# Altium footprint library CONN_DIN.PcbLib: 18 footprints (part 1 of 2)
Each footprint in its own frame and in the unit in brackets; x right, y up, seen from the top. Pads: shape width x height; smd on the part's side, far side on the other; paste and mask are expansions set on the pad; w line width, h text height; cw(c..) or ccw(c..) is an arc to the next point about the centre after c.
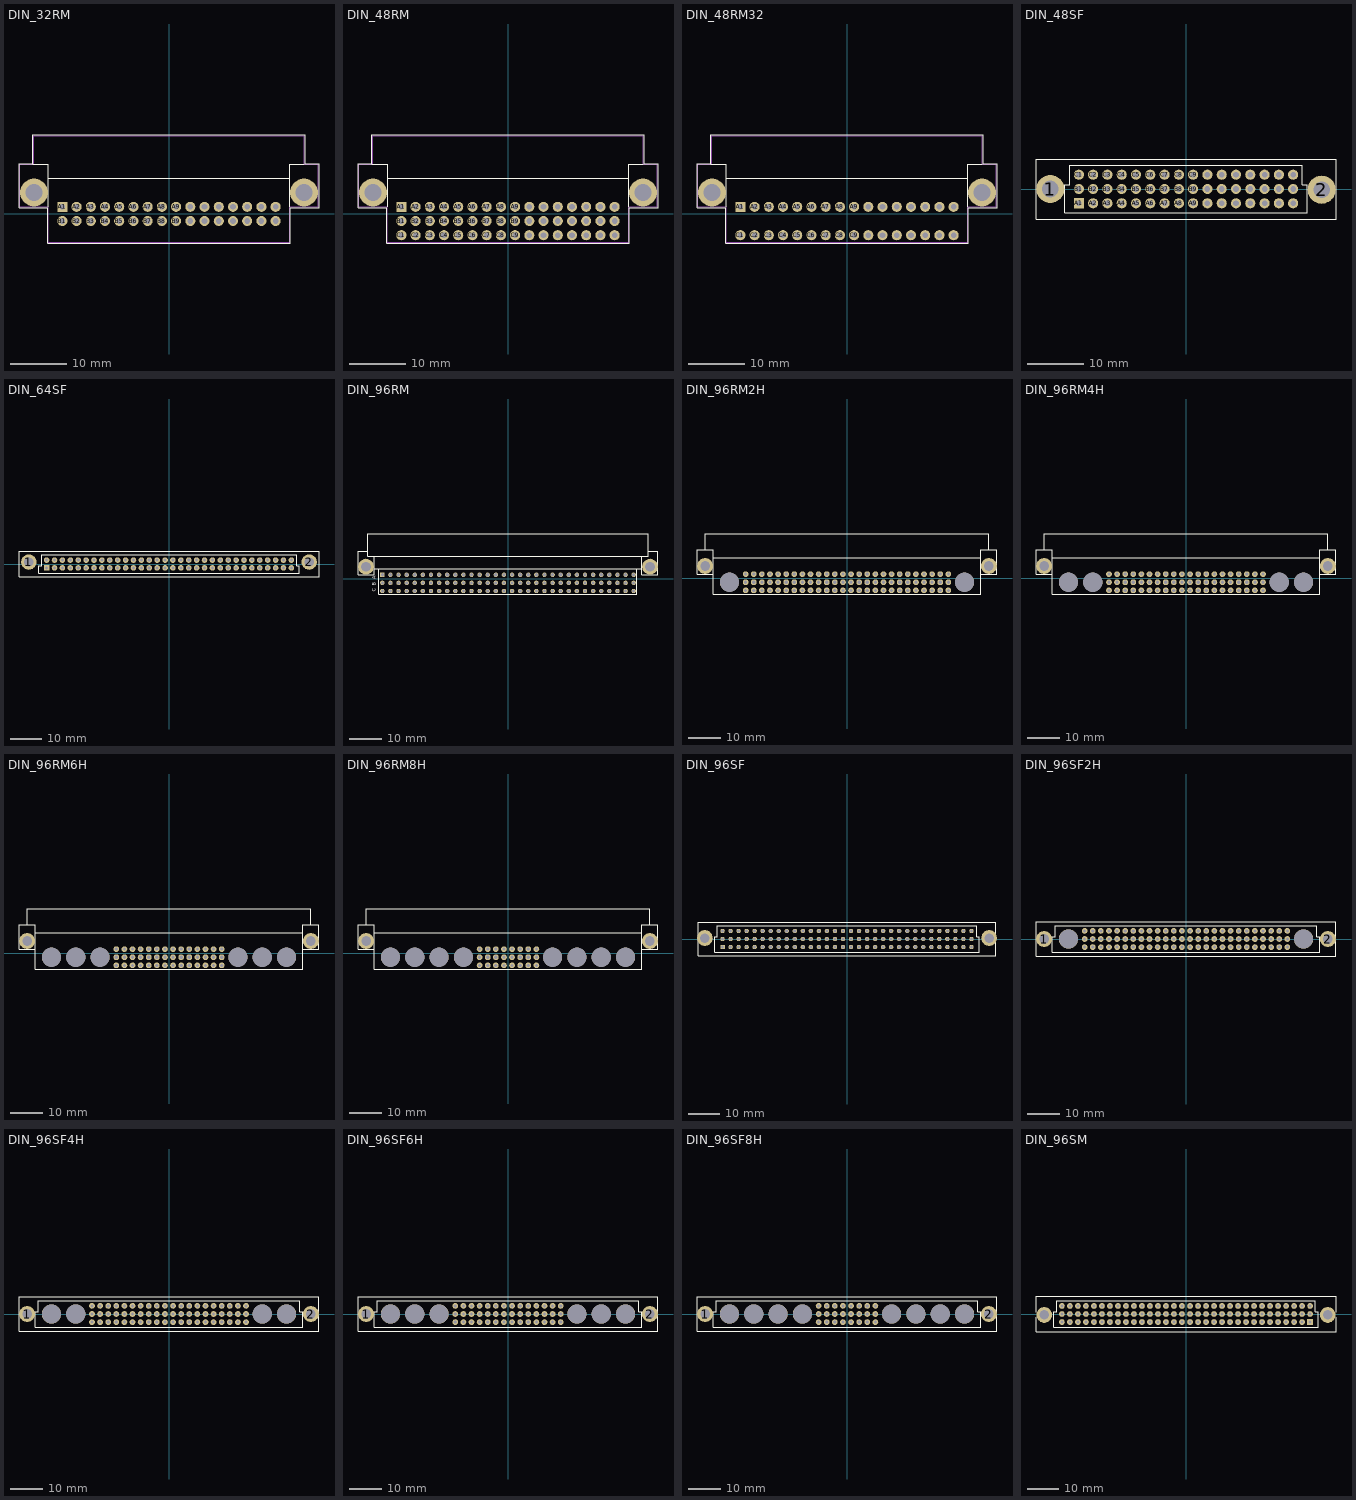
[diagram p0: the footprints below, top view; thin cyan lines are the x and y axes]

## DIN_32RM [mm] "DIN 41612, Series 8457 – 2 rows (2 x 16), Right Angled Male"
pads (34):
  rect 1.8x1.8 hole 1 mask+0.1: A1(-19.05,1.27)
  round 1.8 hole 1 mask+0.1: A2(-16.51,1.27) A3(-13.97,1.27) A4(-11.43,1.27) A5(-8.89,1.27) A6(-6.35,1.27) A7(-3.81,1.27) A8(-1.27,1.27) A9(1.27,1.27) A10(3.81,1.27) A11(6.35,1.27) A12(8.89,1.27) A13(11.43,1.27) A14(13.97,1.27) A15(16.51,1.27) A16(19.05,1.27) B1(-19.05,-1.27) B2(-16.51,-1.27) B3(-13.97,-1.27) B4(-11.43,-1.27) B5(-8.89,-1.27) B6(-6.35,-1.27) B7(-3.81,-1.27) B8(-1.27,-1.27) B9(1.27,-1.27) B10(3.81,-1.27) B11(6.35,-1.27) B12(8.89,-1.27) B13(11.43,-1.27) B14(13.97,-1.27) B15(16.51,-1.27) B16(19.05,-1.27)
  round 5 hole 3: ""(-24.13,3.81) ""(24.13,3.81)
Top Overlay:
  lines w0.2: -24.3,9 -26.8,9 -26.8,1.1 -21.7,1.1 -21.7,-5.2 21.7,-5.2 21.7,1.1 26.8,1.1 26.8,9 24.3,9 24.3,14.1 -24.3,14.1 -24.3,8.9 -21.6,8.9 -21.6,1.27 ; -21.6,6.35 21.6,6.35 ; 21.6,1.27 21.6,8.9 24.13,8.9
Mechanical 13:
  lines w0.1: -26.67,1.27 -26.67,8.89 -24.13,8.89 -24.13,13.97 24.13,13.97 24.13,8.89 26.67,8.89 26.67,1.27 21.59,1.27 21.59,-5.08 -21.59,-5.08 -21.59,1.27 -26.67,1.27
3D body: height 8.5, standoff 0, extent -26.67,-5.08 26.67,13.97

## DIN_48RM [mm]
pads (50):
  rect 1.8x1.8 hole 1 mask+0.1: A1(-19.05,1.27)
  round 1.8 hole 1 mask+0.1: A2(-16.51,1.27) A3(-13.97,1.27) A4(-11.43,1.27) A5(-8.89,1.27) A6(-6.35,1.27) A7(-3.81,1.27) A8(-1.27,1.27) A9(1.27,1.27) A10(3.81,1.27) A11(6.35,1.27) A12(8.89,1.27) A13(11.43,1.27) A14(13.97,1.27) A15(16.51,1.27) A16(19.05,1.27) B1(-19.05,-1.27) B2(-16.51,-1.27) B3(-13.97,-1.27) B4(-11.43,-1.27) B5(-8.89,-1.27) B6(-6.35,-1.27) B7(-3.81,-1.27) B8(-1.27,-1.27) B9(1.27,-1.27) B10(3.81,-1.27) B11(6.35,-1.27) B12(8.89,-1.27) B13(11.43,-1.27) B14(13.97,-1.27) B15(16.51,-1.27) B16(19.05,-1.27) C1(-19.05,-3.81) C2(-16.51,-3.81) C3(-13.97,-3.81) C4(-11.43,-3.81) C5(-8.89,-3.81) C6(-6.35,-3.81) C7(-3.81,-3.81) C8(-1.27,-3.81) C9(1.27,-3.81) C10(3.81,-3.81) C11(6.35,-3.81) C12(8.89,-3.81) C13(11.43,-3.81) C14(13.97,-3.81) C15(16.51,-3.81) C16(19.05,-3.81)
  round 5 hole 3: ""(-24.13,3.81) ""(24.13,3.81)
Top Overlay:
  lines w0.2: -24.3,9 -26.8,9 -26.8,1.1 -21.7,1.1 -21.7,-5.2 21.7,-5.2 21.7,1.1 26.8,1.1 26.8,9 24.3,9 24.3,14.1 -24.3,14.1 -24.3,8.9 -21.5,8.9 -21.5,1.27 ; -21.5,6.35 21.6,6.35 ; 21.6,1.27 21.6,8.9 24.13,8.9
Mechanical 13:
  lines w0.1: -26.67,1.27 -26.67,8.89 -24.13,8.89 -24.13,13.97 24.13,13.97 24.13,8.89 26.67,8.89 26.67,1.27 21.59,1.27 21.59,-5.08 -21.59,-5.08 -21.59,1.27 -26.67,1.27
3D body: height 8.5, standoff 0, extent -26.67,-5.08 26.67,13.97

## DIN_48RM32 [mm] "DIN 41612, Series 8457 – 2 rows (2 x 16), Right Angled Male"
pads (34):
  rect 1.8x1.8 hole 1 mask+0.1: A1(-19.05,1.27)
  round 1.8 hole 1 mask+0.1: A2(-16.51,1.27) A3(-13.97,1.27) A4(-11.43,1.27) A5(-8.89,1.27) A6(-6.35,1.27) A7(-3.81,1.27) A8(-1.27,1.27) A9(1.27,1.27) A10(3.81,1.27) A11(6.35,1.27) A12(8.89,1.27) A13(11.43,1.27) A14(13.97,1.27) A15(16.51,1.27) A16(19.05,1.27) C1(-19.05,-3.81) C2(-16.51,-3.81) C3(-13.97,-3.81) C4(-11.43,-3.81) C5(-8.89,-3.81) C6(-6.35,-3.81) C7(-3.81,-3.81) C8(-1.27,-3.81) C9(1.27,-3.81) C10(3.81,-3.81) C11(6.35,-3.81) C12(8.89,-3.81) C13(11.43,-3.81) C14(13.97,-3.81) C15(16.51,-3.81) C16(19.05,-3.81)
  round 5 hole 3: ""(-24.13,3.81) ""(24.13,3.81)
Top Overlay:
  lines w0.2: -24.3,9 -26.8,9 -26.8,1.1 -21.7,1.1 -21.7,-5.2 21.7,-5.2 21.7,1.1 26.8,1.1 26.8,9 24.3,9 24.3,14.1 -24.3,14.1 -24.3,8.9 -21.6,8.9 -21.6,1.27 ; -21.6,6.35 21.6,6.35 ; 21.6,1.27 21.6,8.9 24.13,8.9
Mechanical 13:
  lines w0.1: -26.67,1.27 -26.67,8.89 -24.13,8.89 -24.13,13.97 24.13,13.97 24.13,8.89 26.67,8.89 26.67,1.27 21.59,1.27 21.59,-5.08 -21.59,-5.08 -21.59,1.27 -26.67,1.27
3D body: height 8.5, standoff 0, extent -26.67,-5.08 26.67,13.97

## DIN_48SF [mm]
pads (50):
  round 5 hole 3: 1(-24.13,0) 2(24.13,-0.127)
  rect 1.8x1.8 hole 1 mask+0.1: A1(-19.05,-2.54)
  round 1.8 hole 1 mask+0.1: A2(-16.51,-2.54) A3(-13.97,-2.54) A4(-11.43,-2.54) A5(-8.89,-2.54) A6(-6.35,-2.54) A7(-3.81,-2.54) A8(-1.27,-2.54) A9(1.27,-2.54) A10(3.81,-2.54) A11(6.35,-2.54) A12(8.89,-2.54) A13(11.43,-2.54) A14(13.97,-2.54) A15(16.51,-2.54) A16(19.05,-2.54) B1(-19.05,0) B2(-16.51,0) B3(-13.97,0) B4(-11.43,0) B5(-8.89,0) B6(-6.35,0) B7(-3.81,0) B8(-1.27,0) B9(1.27,0) B10(3.81,0) B11(6.35,0) B12(8.89,0) B13(11.43,0) B14(13.97,0) B15(16.51,0) B16(19.05,0) C1(-19.05,2.54) C2(-16.51,2.54) C3(-13.97,2.54) C4(-11.43,2.54) C5(-8.89,2.54) C6(-6.35,2.54) C7(-3.81,2.54) C8(-1.27,2.54) C9(1.27,2.54) C10(3.81,2.54) C11(6.35,2.54) C12(8.89,2.54) C13(11.43,2.54) C14(13.97,2.54) C15(16.51,2.54) C16(19.05,2.54)
Top Overlay:
  lines w0.2: -26.67,-5.334 26.67,-5.334 26.67,5.334 -26.67,5.334 -26.67,-5.334 ; -21.59,-4.191 21.59,-4.191 21.59,0.762 20.701,0.762 20.701,4.191 -20.701,4.191 -20.701,0.762 -21.59,0.762 -21.59,-4.191

## DIN_64SF [mm]
pads (66):
  round 5 hole 3: 1(-45.085,0.635) 2(45.085,0.635)
  rect 1.8x1.8 hole 1 mask+0.1: A1(-39.37,-1.27)
  round 1.8 hole 1 mask+0.1: A2(-36.83,-1.27) A3(-34.29,-1.27) A4(-31.75,-1.27) A5(-29.21,-1.27) A6(-26.67,-1.27) A7(-24.13,-1.27) A8(-21.59,-1.27) A9(-19.05,-1.27) A10(-16.51,-1.27) A11(-13.97,-1.27) A12(-11.43,-1.27) A13(-8.89,-1.27) A14(-6.35,-1.27) A15(-3.81,-1.27) A16(-1.27,-1.27) A17(1.27,-1.27) A18(3.81,-1.27) A19(6.35,-1.27) A20(8.89,-1.27) A21(11.43,-1.27) A22(13.97,-1.27) A23(16.51,-1.27) A24(19.05,-1.27) A25(21.59,-1.27) A26(24.13,-1.27) A27(26.67,-1.27) A28(29.21,-1.27) A29(31.75,-1.27) A30(34.29,-1.27) A31(36.83,-1.27) A32(39.37,-1.27) B1(-39.37,1.27) B2(-36.83,1.27) B3(-34.29,1.27) B4(-31.75,1.27) B5(-29.21,1.27) B6(-26.67,1.27) B7(-24.13,1.27) B8(-21.59,1.27) B9(-19.05,1.27) B10(-16.51,1.27) B11(-13.97,1.27) B12(-11.43,1.27) B13(-8.89,1.27) B14(-6.35,1.27) B15(-3.81,1.27) B16(-1.27,1.27) B17(1.27,1.27) B18(3.81,1.27) B19(6.35,1.27) B20(8.89,1.27) B21(11.43,1.27) B22(13.97,1.27) B23(16.51,1.27) B24(19.05,1.27) B25(21.59,1.27) B26(24.13,1.27) B27(26.67,1.27) B28(29.21,1.27) B29(31.75,1.27) B30(34.29,1.27) B31(36.83,1.27) B32(39.37,1.27)
Top Overlay:
  lines w0.2: -48.26,-4.064 48.26,-4.064 48.26,4.064 -48.26,4.064 -48.26,-4.064 ; -41.91,-2.921 41.91,-2.921 41.91,-0.508 41.021,-0.508 41.021,2.921 -41.021,2.921 -41.021,-0.508 -41.91,-0.508 -41.91,-2.921

## DIN_96RM [mm] "DIN 41612, 2.54mm,pin,DIN 41612,solder,PCB,90,96w, TE 5650947-5"
pads (98):
  rect 1.4x1.4 / inner rect 1.3x1.3 / far side rect 1.4x1.8 hole 1 mask+0.1: A1(-39.37,1.27)
  round 1.4 / inner round 1.3 / far side oval 1.4x1.8 hole 1 mask+0.1: A2(-36.83,1.27) A3(-34.29,1.27) A4(-31.75,1.27) A5(-29.21,1.27) A6(-26.67,1.27) A7(-24.13,1.27) A8(-21.59,1.27) A9(-19.05,1.27) A10(-16.51,1.27) A11(-13.97,1.27) A12(-11.43,1.27) A13(-8.89,1.27) A14(-6.35,1.27) A15(-3.81,1.27) A16(-1.27,1.27) A17(1.27,1.27) A18(3.81,1.27) A19(6.35,1.27) A20(8.89,1.27) A21(11.43,1.27) A22(13.97,1.27) A23(16.51,1.27) A24(19.05,1.27) A25(21.59,1.27) A26(24.13,1.27) A27(26.67,1.27) A28(29.21,1.27) A29(31.75,1.27) A30(34.29,1.27) A31(36.83,1.27) A32(39.37,1.27) B1(-39.37,-1.27) B2(-36.83,-1.27) B3(-34.29,-1.27) B4(-31.75,-1.27) B5(-29.21,-1.27) B6(-26.67,-1.27) B7(-24.13,-1.27) B8(-21.59,-1.27) B9(-19.05,-1.27) B10(-16.51,-1.27) B11(-13.97,-1.27) B12(-11.43,-1.27) B13(-8.89,-1.27) B14(-6.35,-1.27) B15(-3.81,-1.27) B16(-1.27,-1.27) B17(1.27,-1.27) B18(3.81,-1.27) B19(6.35,-1.27) B20(8.89,-1.27) B21(11.43,-1.27) B22(13.97,-1.27) B23(16.51,-1.27) B24(19.05,-1.27) B25(21.59,-1.27) B26(24.13,-1.27) B27(26.67,-1.27) B28(29.21,-1.27) B29(31.75,-1.27) B30(34.29,-1.27) B31(36.83,-1.27) B32(39.37,-1.27) C1(-39.37,-3.81) C2(-36.83,-3.81) C3(-34.29,-3.81) C4(-31.75,-3.81) C5(-29.21,-3.81) C6(-26.67,-3.81) C7(-24.13,-3.81) C8(-21.59,-3.81) C9(-19.05,-3.81) C10(-16.51,-3.81) C11(-13.97,-3.81) C12(-11.43,-3.81) C13(-8.89,-3.81) C14(-6.35,-3.81) C15(-3.81,-3.81) C16(-1.27,-3.81) C17(1.27,-3.81) C18(3.81,-3.81) C19(6.35,-3.81) C20(8.89,-3.81) C21(11.43,-3.81) C22(13.97,-3.81) C23(16.51,-3.81) C24(19.05,-3.81) C25(21.59,-3.81) C26(24.13,-3.81) C27(26.67,-3.81) C28(29.21,-3.81) C29(31.75,-3.81) C30(34.29,-3.81) C31(36.83,-3.81) C32(39.37,-3.81)
  round 5 hole 3: ""(-44.5,3.8) ""(44.5,3.8)
Top Overlay:
  lines w0.2: -44,8.6 -46.99,8.6 -46.99,1.27 -41.91,1.27 -41.91,7.1 ; -41.91,3.2 41.91,3.2 ; -40.5,3.2 -40.5,-4.8 40.4,-4.8 40.4,3.2 ; 41.91,7.09 41.91,1.27 46.99,1.27 46.99,8.6 44,8.6 ; -44,7.1 -44,14.1 44,14.1 44,7.1 -44,7.1
  text "C" at -41,-4 h2
  text "B" at -40.9,-2.1 h2
  text "A" at -41,-0.2 h2
3D body "12003.stp": height 11.02, standoff -1.74, extent -46.925,-4.1 46.925,13.922

## DIN_96RM2H [mm]
pads (82):
  round 1.8 hole 1 mask+0.1: A4(-31.75,1.27) A5(-29.21,1.27) A6(-26.67,1.27) A7(-24.13,1.27) A8(-21.59,1.27) A9(-19.05,1.27) A10(-16.51,1.27) A11(-13.97,1.27) A12(-11.43,1.27) A13(-8.89,1.27) A14(-6.35,1.27) A15(-3.81,1.27) A16(-1.27,1.27) A17(1.27,1.27) A18(3.81,1.27) A19(6.35,1.27) A20(8.89,1.27) A21(11.43,1.27) A22(13.97,1.27) A23(16.51,1.27) A24(19.05,1.27) A25(21.59,1.27) A26(24.13,1.27) A27(26.67,1.27) A28(29.21,1.27) A29(31.75,1.27) B4(-31.75,-1.27) B5(-29.21,-1.27) B6(-26.67,-1.27) B7(-24.13,-1.27) B8(-21.59,-1.27) B9(-19.05,-1.27) B10(-16.51,-1.27) B11(-13.97,-1.27) B12(-11.43,-1.27) B13(-8.89,-1.27) B14(-6.35,-1.27) B15(-3.81,-1.27) B16(-1.27,-1.27) B17(1.27,-1.27) B18(3.81,-1.27) B19(6.35,-1.27) B20(8.89,-1.27) B21(11.43,-1.27) B22(13.97,-1.27) B23(16.51,-1.27) B24(19.05,-1.27) B25(21.59,-1.27) B26(24.13,-1.27) B27(26.67,-1.27) B28(29.21,-1.27) B29(31.75,-1.27) C4(-31.75,-3.81) C5(-29.21,-3.81) C6(-26.67,-3.81) C7(-24.13,-3.81) C8(-21.59,-3.81) C9(-19.05,-3.81) C10(-16.51,-3.81) C11(-13.97,-3.81) C12(-11.43,-3.81) C13(-8.89,-3.81) C14(-6.35,-3.81) C15(-3.81,-3.81) C16(-1.27,-3.81) C17(1.27,-3.81) C18(3.81,-3.81) C19(6.35,-3.81) C20(8.89,-3.81) C21(11.43,-3.81) C22(13.97,-3.81) C23(16.51,-3.81) C24(19.05,-3.81) C25(21.59,-3.81) C26(24.13,-3.81) C27(26.67,-3.81) C28(29.21,-3.81) C29(31.75,-3.81)
  round 5 hole 3: ""(-44.45,3.81) ""(44.45,3.81)
  round 6 hole 6 unplated: ""(-36.83,-1.27)
  round 6 hole 6: ""(36.83,-1.27)
Top Overlay:
  lines w0.2: -41.91,6.35 41.91,6.35 ; -44.45,8.89 -44.45,13.97 44.45,13.97 44.45,8.89 ; -44.45,8.89 -46.99,8.89 -46.99,1.27 -41.91,1.27 ; -44.45,8.89 -41.91,8.89 -41.91,1.27 ; -41.91,1.27 -41.91,-5.08 41.91,-5.08 41.91,1.27 ; 41.91,1.27 41.91,8.89 44.45,8.89 ; 41.91,1.27 46.99,1.27 46.99,8.89 44.45,8.89

## DIN_96RM4H [mm]
pads (66):
  round 1.8 hole 1 mask+0.1: A7(-24.13,1.27) A8(-21.59,1.27) A9(-19.05,1.27) A10(-16.51,1.27) A11(-13.97,1.27) A12(-11.43,1.27) A13(-8.89,1.27) A14(-6.35,1.27) A15(-3.81,1.27) A16(-1.27,1.27) A17(1.27,1.27) A18(3.81,1.27) A19(6.35,1.27) A20(8.89,1.27) A21(11.43,1.27) A22(13.97,1.27) A23(16.51,1.27) A24(19.05,1.27) A25(21.59,1.27) A26(24.13,1.27) B7(-24.13,-1.27) B8(-21.59,-1.27) B9(-19.05,-1.27) B10(-16.51,-1.27) B11(-13.97,-1.27) B12(-11.43,-1.27) B13(-8.89,-1.27) B14(-6.35,-1.27) B15(-3.81,-1.27) B16(-1.27,-1.27) B17(1.27,-1.27) B18(3.81,-1.27) B19(6.35,-1.27) B20(8.89,-1.27) B21(11.43,-1.27) B22(13.97,-1.27) B23(16.51,-1.27) B24(19.05,-1.27) B25(21.59,-1.27) B26(24.13,-1.27) C7(-24.13,-3.81) C8(-21.59,-3.81) C9(-19.05,-3.81) C10(-16.51,-3.81) C11(-13.97,-3.81) C12(-11.43,-3.81) C13(-8.89,-3.81) C14(-6.35,-3.81) C15(-3.81,-3.81) C16(-1.27,-3.81) C17(1.27,-3.81) C18(3.81,-3.81) C19(6.35,-3.81) C20(8.89,-3.81) C21(11.43,-3.81) C22(13.97,-3.81) C23(16.51,-3.81) C24(19.05,-3.81) C25(21.59,-3.81) C26(24.13,-3.81)
  round 5 hole 3: ""(-44.45,3.81) ""(44.45,3.81)
  round 6 hole 6 unplated: ""(-36.83,-1.27) ""(-29.21,-1.27) ""(36.83,-1.27)
  round 6 hole 6: ""(29.21,-1.27)
Top Overlay:
  lines w0.2: -41.91,6.35 41.91,6.35 ; -44.45,8.89 -44.45,13.97 44.45,13.97 44.45,8.89 ; -44.45,8.89 -46.99,8.89 -46.99,1.27 -41.91,1.27 ; -44.45,8.89 -41.91,8.89 -41.91,1.27 ; -41.91,1.27 -41.91,-5.08 41.91,-5.08 41.91,1.27 ; 41.91,1.27 41.91,8.89 44.45,8.89 ; 41.91,1.27 46.99,1.27 46.99,8.89 44.45,8.89

## DIN_96RM6H [mm]
pads (50):
  round 1.8 hole 1 mask+0.1: A10(-16.51,1.27) A11(-13.97,1.27) A12(-11.43,1.27) A13(-8.89,1.27) A14(-6.35,1.27) A15(-3.81,1.27) A16(-1.27,1.27) A17(1.27,1.27) A18(3.81,1.27) A19(6.35,1.27) A20(8.89,1.27) A21(11.43,1.27) A22(13.97,1.27) A23(16.51,1.27) B10(-16.51,-1.27) B11(-13.97,-1.27) B12(-11.43,-1.27) B13(-8.89,-1.27) B14(-6.35,-1.27) B15(-3.81,-1.27) B16(-1.27,-1.27) B17(1.27,-1.27) B18(3.81,-1.27) B19(6.35,-1.27) B20(8.89,-1.27) B21(11.43,-1.27) B22(13.97,-1.27) B23(16.51,-1.27) C10(-16.51,-3.81) C11(-13.97,-3.81) C12(-11.43,-3.81) C13(-8.89,-3.81) C14(-6.35,-3.81) C15(-3.81,-3.81) C16(-1.27,-3.81) C17(1.27,-3.81) C18(3.81,-3.81) C19(6.35,-3.81) C20(8.89,-3.81) C21(11.43,-3.81) C22(13.97,-3.81) C23(16.51,-3.81)
  round 5 hole 3: ""(-44.45,3.81) ""(44.45,3.81)
  round 6 hole 6 unplated: ""(-36.83,-1.27) ""(-29.21,-1.27) ""(-21.59,-1.27) ""(29.21,-1.27) ""(36.83,-1.27)
  round 6 hole 6: ""(21.59,-1.27)
Top Overlay:
  lines w0.2: -41.91,6.35 41.91,6.35 ; -44.45,8.89 -41.91,8.89 -41.91,1.27 ; -44.45,8.89 -46.99,8.89 -46.99,1.27 -41.91,1.27 ; -44.45,8.89 -44.45,13.97 44.45,13.97 44.45,8.89 ; -41.91,1.27 -41.91,-5.08 41.91,-5.08 41.91,1.27 ; 41.91,1.27 46.99,1.27 46.99,8.89 44.45,8.89 ; 41.91,1.27 41.91,8.89 44.45,8.89

## DIN_96RM8H [mm]
pads (34):
  round 1.8 hole 1 mask+0.1: A13(-8.89,1.27) A14(-6.35,1.27) A15(-3.81,1.27) A16(-1.27,1.27) A17(1.27,1.27) A18(3.81,1.27) A19(6.35,1.27) A20(8.89,1.27) B13(-8.89,-1.27) B14(-6.35,-1.27) B15(-3.81,-1.27) B16(-1.27,-1.27) B17(1.27,-1.27) B18(3.81,-1.27) B19(6.35,-1.27) B20(8.89,-1.27) C13(-8.89,-3.81) C14(-6.35,-3.81) C15(-3.81,-3.81) C16(-1.27,-3.81) C17(1.27,-3.81) C18(3.81,-3.81) C19(6.35,-3.81) C20(8.89,-3.81)
  round 5 hole 3: ""(-44.45,3.81) ""(44.45,3.81)
  round 6 hole 6 unplated: ""(-36.83,-1.27) ""(-29.21,-1.27) ""(-21.59,-1.27) ""(21.59,-1.27) ""(29.21,-1.27) ""(36.83,-1.27)
  round 6 hole 6 unplated mask+0.1: ""(-13.97,-1.27) ""(13.97,-1.27)
Top Overlay:
  lines w0.2: -41.91,6.35 41.91,6.35 ; -44.45,8.89 -44.45,13.97 44.45,13.97 44.45,8.89 ; -44.45,8.89 -46.99,8.89 -46.99,1.27 -41.91,1.27 ; -44.45,8.89 -41.91,8.89 -41.91,1.27 ; -41.91,1.27 -41.91,-5.08 41.91,-5.08 41.91,1.27 ; 41.91,1.27 41.91,8.89 44.45,8.89 ; 41.91,1.27 46.99,1.27 46.99,8.89 44.45,8.89

## DIN_96SF [mm] "DIN 41612, 2.54mm,receptacle,vertical,PCB,96w, TE 5535032-5"
pads (98):
  rect 1.4x1.4 / inner rect 1.3x1.3 / far side rect 1.4x1.8 hole 1 mask+0.1: A1(-39.37,-2.54)
  round 1.4 / inner round 1.3 / far side oval 1.4x1.8 hole 1 mask+0.1: A2(-36.83,-2.54) A3(-34.29,-2.54) A4(-31.75,-2.54) A5(-29.21,-2.54) A6(-26.67,-2.54) A7(-24.13,-2.54) A8(-21.59,-2.54) A9(-19.05,-2.54) A10(-16.51,-2.54) A11(-13.97,-2.54) A12(-11.43,-2.54) A13(-8.89,-2.54) A14(-6.35,-2.54) A15(-3.81,-2.54) A16(-1.27,-2.54) A17(1.27,-2.54) A18(3.81,-2.54) A19(6.35,-2.54) A20(8.89,-2.54) A21(11.43,-2.54) A22(13.97,-2.54) A23(16.51,-2.54) A24(19.05,-2.54) A25(21.59,-2.54) A26(24.13,-2.54) A27(26.67,-2.54) A28(29.21,-2.54) A29(31.75,-2.54) A30(34.29,-2.54) A31(36.83,-2.54) A32(39.37,-2.54) B1(-39.37,0) B2(-36.83,0) B3(-34.29,0) B4(-31.75,0) B5(-29.21,0) B6(-26.67,0) B7(-24.13,0) B8(-21.59,0) B9(-19.05,0) B10(-16.51,0) B11(-13.97,0) B12(-11.43,0) B13(-8.89,0) B14(-6.35,0) B15(-3.81,0) B16(-1.27,0) B17(1.27,0) B18(3.81,0) B19(6.35,0) B20(8.89,0) B21(11.43,0) B22(13.97,0) B23(16.51,0) B24(19.05,0) B25(21.59,0) B26(24.13,0) B27(26.67,0) B28(29.21,0) B29(31.75,0) B30(34.29,0) B31(36.83,0) B32(39.37,0) C1(-39.37,2.54) C2(-36.83,2.54) C3(-34.29,2.54) C4(-31.75,2.54) C5(-29.21,2.54) C6(-26.67,2.54) C7(-24.13,2.54) C8(-21.59,2.54) C9(-19.05,2.54) C10(-16.51,2.54) C11(-13.97,2.54) C12(-11.43,2.54) C13(-8.89,2.54) C14(-6.35,2.54) C15(-3.81,2.54) C16(-1.27,2.54) C17(1.27,2.54) C18(3.81,2.54) C19(6.35,2.54) C20(8.89,2.54) C21(11.43,2.54) C22(13.97,2.54) C23(16.51,2.54) C24(19.05,2.54) C25(21.59,2.54) C26(24.13,2.54) C27(26.67,2.54) C28(29.21,2.54) C29(31.75,2.54) C30(34.29,2.54) C31(36.83,2.54) C32(39.37,2.54)
  round 5 hole 3: ""(-44.95,0.3) ""(44.95,0.3)
Top Overlay:
  lines w0.2: -46.99,-5.334 -46.99,5.334 46.99,5.334 46.99,-5.334 -46.99,-5.334 ; -41.91,-4.191 -41.91,0.762 -41.021,0.762 -41.021,4.191 41.021,4.191 41.021,0.762 41.91,0.762 41.91,-4.191 -41.91,-4.191
3D body "11992.stp": height 12, standoff -4.33, extent -46.927,-5.3 46.928,5.3

## DIN_96SF2H [mm]
pads (82):
  round 5 hole 3: 1(-44.45,0) 2(44.45,0)
  round 1.8 hole 1 mask+0.1: A4(-31.75,-2.54) A5(-29.21,-2.54) A6(-26.67,-2.54) A7(-24.13,-2.54) A8(-21.59,-2.54) A9(-19.05,-2.54) A10(-16.51,-2.54) A11(-13.97,-2.54) A12(-11.43,-2.54) A13(-8.89,-2.54) A14(-6.35,-2.54) A15(-3.81,-2.54) A16(-1.27,-2.54) A17(1.27,-2.54) A18(3.81,-2.54) A19(6.35,-2.54) A20(8.89,-2.54) A21(11.43,-2.54) A22(13.97,-2.54) A23(16.51,-2.54) A24(19.05,-2.54) A25(21.59,-2.54) A26(24.13,-2.54) A27(26.67,-2.54) A28(29.21,-2.54) A29(31.75,-2.54) B4(-31.75,0) B5(-29.21,0) B6(-26.67,0) B7(-24.13,0) B8(-21.59,0) B9(-19.05,0) B10(-16.51,0) B11(-13.97,0) B12(-11.43,0) B13(-8.89,0) B14(-6.35,0) B15(-3.81,0) B16(-1.27,0) B17(1.27,0) B18(3.81,0) B19(6.35,0) B20(8.89,0) B21(11.43,0) B22(13.97,0) B23(16.51,0) B24(19.05,0) B25(21.59,0) B26(24.13,0) B27(26.67,0) B28(29.21,0) B29(31.75,0) C4(-31.75,2.54) C5(-29.21,2.54) C6(-26.67,2.54) C7(-24.13,2.54) C8(-21.59,2.54) C9(-19.05,2.54) C10(-16.51,2.54) C11(-13.97,2.54) C12(-11.43,2.54) C13(-8.89,2.54) C14(-6.35,2.54) C15(-3.81,2.54) C16(-1.27,2.54) C17(1.27,2.54) C18(3.81,2.54) C19(6.35,2.54) C20(8.89,2.54) C21(11.43,2.54) C22(13.97,2.54) C23(16.51,2.54) C24(19.05,2.54) C25(21.59,2.54) C26(24.13,2.54) C27(26.67,2.54) C28(29.21,2.54) C29(31.75,2.54)
  round 6 hole 6 unplated: ""(-36.83,0)
  round 6 hole 6: ""(36.83,0)
Top Overlay:
  lines w0.2: -46.99,-5.334 46.99,-5.334 46.99,5.334 -46.99,5.334 -46.99,-5.334 ; -41.91,-4.191 41.91,-4.191 41.91,0.762 41.021,0.762 41.021,4.191 -41.021,4.191 -41.021,0.762 -41.91,0.762 -41.91,-4.191

## DIN_96SF4H [mm]
pads (66):
  round 5 hole 3: 1(-44.45,0) 2(44.45,0)
  round 1.8 hole 1 mask+0.1: A7(-24.13,-2.54) A8(-21.59,-2.54) A9(-19.05,-2.54) A10(-16.51,-2.54) A11(-13.97,-2.54) A12(-11.43,-2.54) A13(-8.89,-2.54) A14(-6.35,-2.54) A15(-3.81,-2.54) A16(-1.27,-2.54) A17(1.27,-2.54) A18(3.81,-2.54) A19(6.35,-2.54) A20(8.89,-2.54) A21(11.43,-2.54) A22(13.97,-2.54) A23(16.51,-2.54) A24(19.05,-2.54) A25(21.59,-2.54) A26(24.13,-2.54) B7(-24.13,0) B8(-21.59,0) B9(-19.05,0) B10(-16.51,0) B11(-13.97,0) B12(-11.43,0) B13(-8.89,0) B14(-6.35,0) B15(-3.81,0) B16(-1.27,0) B17(1.27,0) B18(3.81,0) B19(6.35,0) B20(8.89,0) B21(11.43,0) B22(13.97,0) B23(16.51,0) B24(19.05,0) B25(21.59,0) B26(24.13,0) C7(-24.13,2.54) C8(-21.59,2.54) C9(-19.05,2.54) C10(-16.51,2.54) C11(-13.97,2.54) C12(-11.43,2.54) C13(-8.89,2.54) C14(-6.35,2.54) C15(-3.81,2.54) C16(-1.27,2.54) C17(1.27,2.54) C18(3.81,2.54) C19(6.35,2.54) C20(8.89,2.54) C21(11.43,2.54) C22(13.97,2.54) C23(16.51,2.54) C24(19.05,2.54) C25(21.59,2.54) C26(24.13,2.54)
  round 6 hole 6 unplated: ""(-36.83,0) ""(-29.21,0) ""(36.83,0)
  round 6 hole 6: ""(29.21,0)
Top Overlay:
  lines w0.2: -46.99,-5.334 46.99,-5.334 46.99,5.334 -46.99,5.334 -46.99,-5.334 ; -41.91,-4.191 41.91,-4.191 41.91,0.762 41.021,0.762 41.021,4.191 -41.021,4.191 -41.021,0.762 -41.91,0.762 -41.91,-4.191

## DIN_96SF6H [mm]
pads (50):
  round 5 hole 3: 1(-44.45,0) 2(44.45,0)
  round 1.8 hole 1 mask+0.1: A10(-16.51,-2.54) A11(-13.97,-2.54) A12(-11.43,-2.54) A13(-8.89,-2.54) A14(-6.35,-2.54) A15(-3.81,-2.54) A16(-1.27,-2.54) A17(1.27,-2.54) A18(3.81,-2.54) A19(6.35,-2.54) A20(8.89,-2.54) A21(11.43,-2.54) A22(13.97,-2.54) A23(16.51,-2.54) B10(-16.51,0) B11(-13.97,0) B12(-11.43,0) B13(-8.89,0) B14(-6.35,0) B15(-3.81,0) B16(-1.27,0) B17(1.27,0) B18(3.81,0) B19(6.35,0) B20(8.89,0) B21(11.43,0) B22(13.97,0) B23(16.51,0) C10(-16.51,2.54) C11(-13.97,2.54) C12(-11.43,2.54) C13(-8.89,2.54) C14(-6.35,2.54) C15(-3.81,2.54) C16(-1.27,2.54) C17(1.27,2.54) C18(3.81,2.54) C19(6.35,2.54) C20(8.89,2.54) C21(11.43,2.54) C22(13.97,2.54) C23(16.51,2.54)
  round 6 hole 6 unplated: ""(-36.83,0) ""(-29.21,0) ""(-21.59,0) ""(29.21,0) ""(36.83,0)
  round 6 hole 6: ""(21.59,0)
Top Overlay:
  lines w0.2: -46.99,-5.334 46.99,-5.334 46.99,5.334 -46.99,5.334 -46.99,-5.334 ; -41.91,-4.191 41.91,-4.191 41.91,0.762 41.021,0.762 41.021,4.191 -41.021,4.191 -41.021,0.762 -41.91,0.762 -41.91,-4.191

## DIN_96SF8H [mm]
pads (34):
  round 5 hole 3: 1(-44.45,0) 2(44.45,0)
  round 1.8 hole 1 mask+0.1: A13(-8.89,-2.54) A14(-6.35,-2.54) A15(-3.81,-2.54) A16(-1.27,-2.54) A17(1.27,-2.54) A18(3.81,-2.54) A19(6.35,-2.54) A20(8.89,-2.54) B13(-8.89,0) B14(-6.35,0) B15(-3.81,0) B16(-1.27,0) B17(1.27,0) B18(3.81,0) B19(6.35,0) B20(8.89,0) C13(-8.89,2.54) C14(-6.35,2.54) C15(-3.81,2.54) C16(-1.27,2.54) C17(1.27,2.54) C18(3.81,2.54) C19(6.35,2.54) C20(8.89,2.54)
  round 6 hole 6 unplated: ""(-36.83,0) ""(-29.21,0) ""(-21.59,0) ""(-13.97,0) ""(21.59,0) ""(29.21,0) ""(36.83,0)
  round 6 hole 6: ""(13.97,0)
Top Overlay:
  lines w0.2: -46.99,-5.334 46.99,-5.334 46.99,5.334 -46.99,5.334 -46.99,-5.334 ; -41.91,-4.191 41.91,-4.191 41.91,0.762 41.021,0.762 41.021,4.191 -41.021,4.191 -41.021,0.762 -41.91,0.762 -41.91,-4.191

## DIN_96SM [mm]
pads (98):
  rect 1.8x1.8 hole 1 mask+0.1: A1(39.37,-2.54)
  round 1.8 hole 1 mask+0.1: A2(36.83,-2.54) A3(34.29,-2.54) A4(31.75,-2.54) A5(29.21,-2.54) A6(26.67,-2.54) A7(24.13,-2.54) A8(21.59,-2.54) A9(19.05,-2.54) A10(16.51,-2.54) A11(13.97,-2.54) A12(11.43,-2.54) A13(8.89,-2.54) A14(6.35,-2.54) A15(3.81,-2.54) A16(1.27,-2.54) A17(-1.27,-2.54) A18(-3.81,-2.54) A19(-6.35,-2.54) A20(-8.89,-2.54) A21(-11.43,-2.54) A22(-13.97,-2.54) A23(-16.51,-2.54) A24(-19.05,-2.54) A25(-21.59,-2.54) A26(-24.13,-2.54) A27(-26.67,-2.54) A28(-29.21,-2.54) A29(-31.75,-2.54) A30(-34.29,-2.54) A31(-36.83,-2.54) A32(-39.37,-2.54) B1(39.37,0) B2(36.83,0) B3(34.29,0) B4(31.75,0) B5(29.21,0) B6(26.67,0) B7(24.13,0) B8(21.59,0) B9(19.05,0) B10(16.51,0) B11(13.97,0) B12(11.43,0) B13(8.89,0) B14(6.35,0) B15(3.81,0) B16(1.27,0) B17(-1.27,0) B18(-3.81,0) B19(-6.35,0) B20(-8.89,0) B21(-11.43,0) B22(-13.97,0) B23(-16.51,0) B24(-19.05,0) B25(-21.59,0) B26(-24.13,0) B27(-26.67,0) B28(-29.21,0) B29(-31.75,0) B30(-34.29,0) B31(-36.83,0) B32(-39.37,0) C1(39.37,2.54) C2(36.83,2.54) C3(34.29,2.54) C4(31.75,2.54) C5(29.21,2.54) C6(26.67,2.54) C7(24.13,2.54) C8(21.59,2.54) C9(19.05,2.54) C10(16.51,2.54) C11(13.97,2.54) C12(11.43,2.54) C13(8.89,2.54) C14(6.35,2.54) C15(3.81,2.54) C16(1.27,2.54) C17(-1.27,2.54) C18(-3.81,2.54) C19(-6.35,2.54) C20(-8.89,2.54) C21(-11.43,2.54) C22(-13.97,2.54) C23(-16.51,2.54) C24(-19.05,2.54) C25(-21.59,2.54) C26(-24.13,2.54) C27(-26.67,2.54) C28(-29.21,2.54) C29(-31.75,2.54) C30(-34.29,2.54) C31(-36.83,2.54) C32(-39.37,2.54)
  round 5 hole 3: ""(-45,-0.3) ""(45,-0.3)
Top Overlay:
  lines w0.2: -47.6,-1.1 -47.6,-5.6 47.6,-5.6 47.6,-1.1 ; -47.6,0.5 -47.6,5.6 47.6,5.6 47.6,0.5 ; -41.91,-4.191 -41.91,0.762 -41.021,0.762 -41.021,4.191 41.021,4.191 41.021,0.762 41.91,0.762 41.91,-4.191 -41.91,-4.191
3D body "c-650470-5-m-3d.stp": height 11.5, standoff -4.58, extent -47.435,-5.499 47.434,5.499